# Altium footprint library TN2540-600G-TR.PcbLib: 1 footprints
Each footprint in its own frame and in the unit in brackets; x right, y up, seen from the top. Pads: shape width x height; smd on the part's side, far side on the other; paste and mask are expansions set on the pad; w line width, h text height; cw(c..) or ccw(c..) is an arc to the next point about the centre after c.
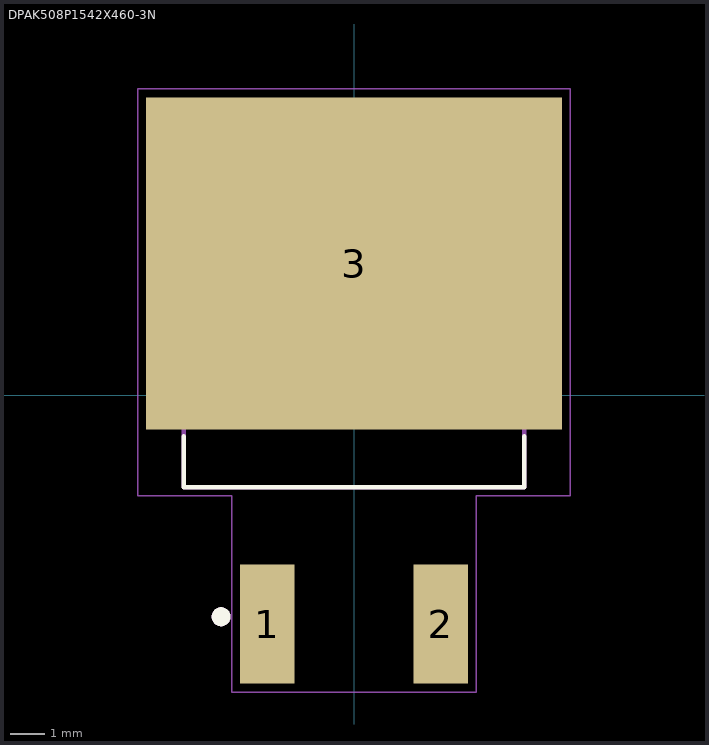
[diagram p0: the footprint, top view; thin cyan lines are the x and y axes]

## DPAK508P1542X460-3N [mm]
pads (3):
  rect 1.6x3.5 smd: 1(-2.54,-6.715) 2(2.54,-6.715)
  rect 12.2x9.75 smd: 3(0,3.87)
Top Overlay:
  circle w0.28: c-3.9,-6.5 r0.14
  lines w0.127: -5,-1.2 -5,-2.7 5,-2.7 5,-1.2
Top Paste:
  region: -3.439,6.7 3.425,6.7 3.425,1.074 -3.439,1.074
Mechanical 1:
  circle w0.28: c-3.9,-6.5 r0.14
  lines w0.05: -6.35,-2.95 -6.35,9 6.35,9 6.35,-2.95 3.59,-2.95 3.59,-8.715 -3.59,-8.715 -3.59,-2.95 -6.35,-2.95
  lines w0.127: -5,-2.7 -5,7 5,7 5,-2.7 -5,-2.7